# EAGLE library part 43045-06_S (library con-molex-micro-fit)
HEADER
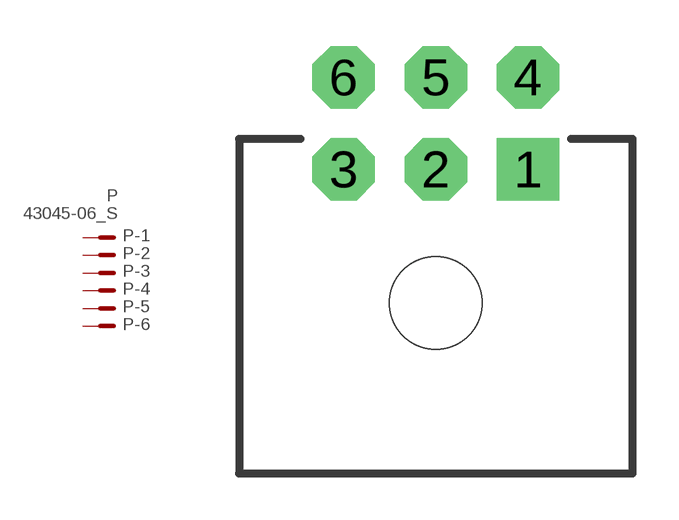
[diagram p10: symbol with the pads of 43045-06; footprint 43045-06]

Designator prefix P; gates -1=P-NV -2=P-N -3=P-N -4=P-N -5=P-N -6=P-N

## 43045-06_S  [43045-06]
1  -1:P  pas
2  -2:P  pas
3  -3:P  pas
4  -4:P  pas
5  -5:P  pas
6  -6:P  pas

## Footprint 43045-06 (pad centres in mm)
HEADER
drill 1.016 pad 2.032 square: 1 3,0
drill 1.016 pad 2.032 octagon: 2 0,0; 3 -3,0; 4 3,3; 5 0,3; 6 -3,3
hole 3 at 0,-4.35